# Altium footprint library Converter_DCDC.PcbLib: 115 footprints (part 4 of 8)
Each footprint in its own frame and in the unit in brackets; x right, y up, seen from the top. Pads: shape width x height; smd on the part's side, far side on the other; paste and mask are expansions set on the pad; w line width, h text height; cw(c..) or ccw(c..) is an arc to the next point about the centre after c.
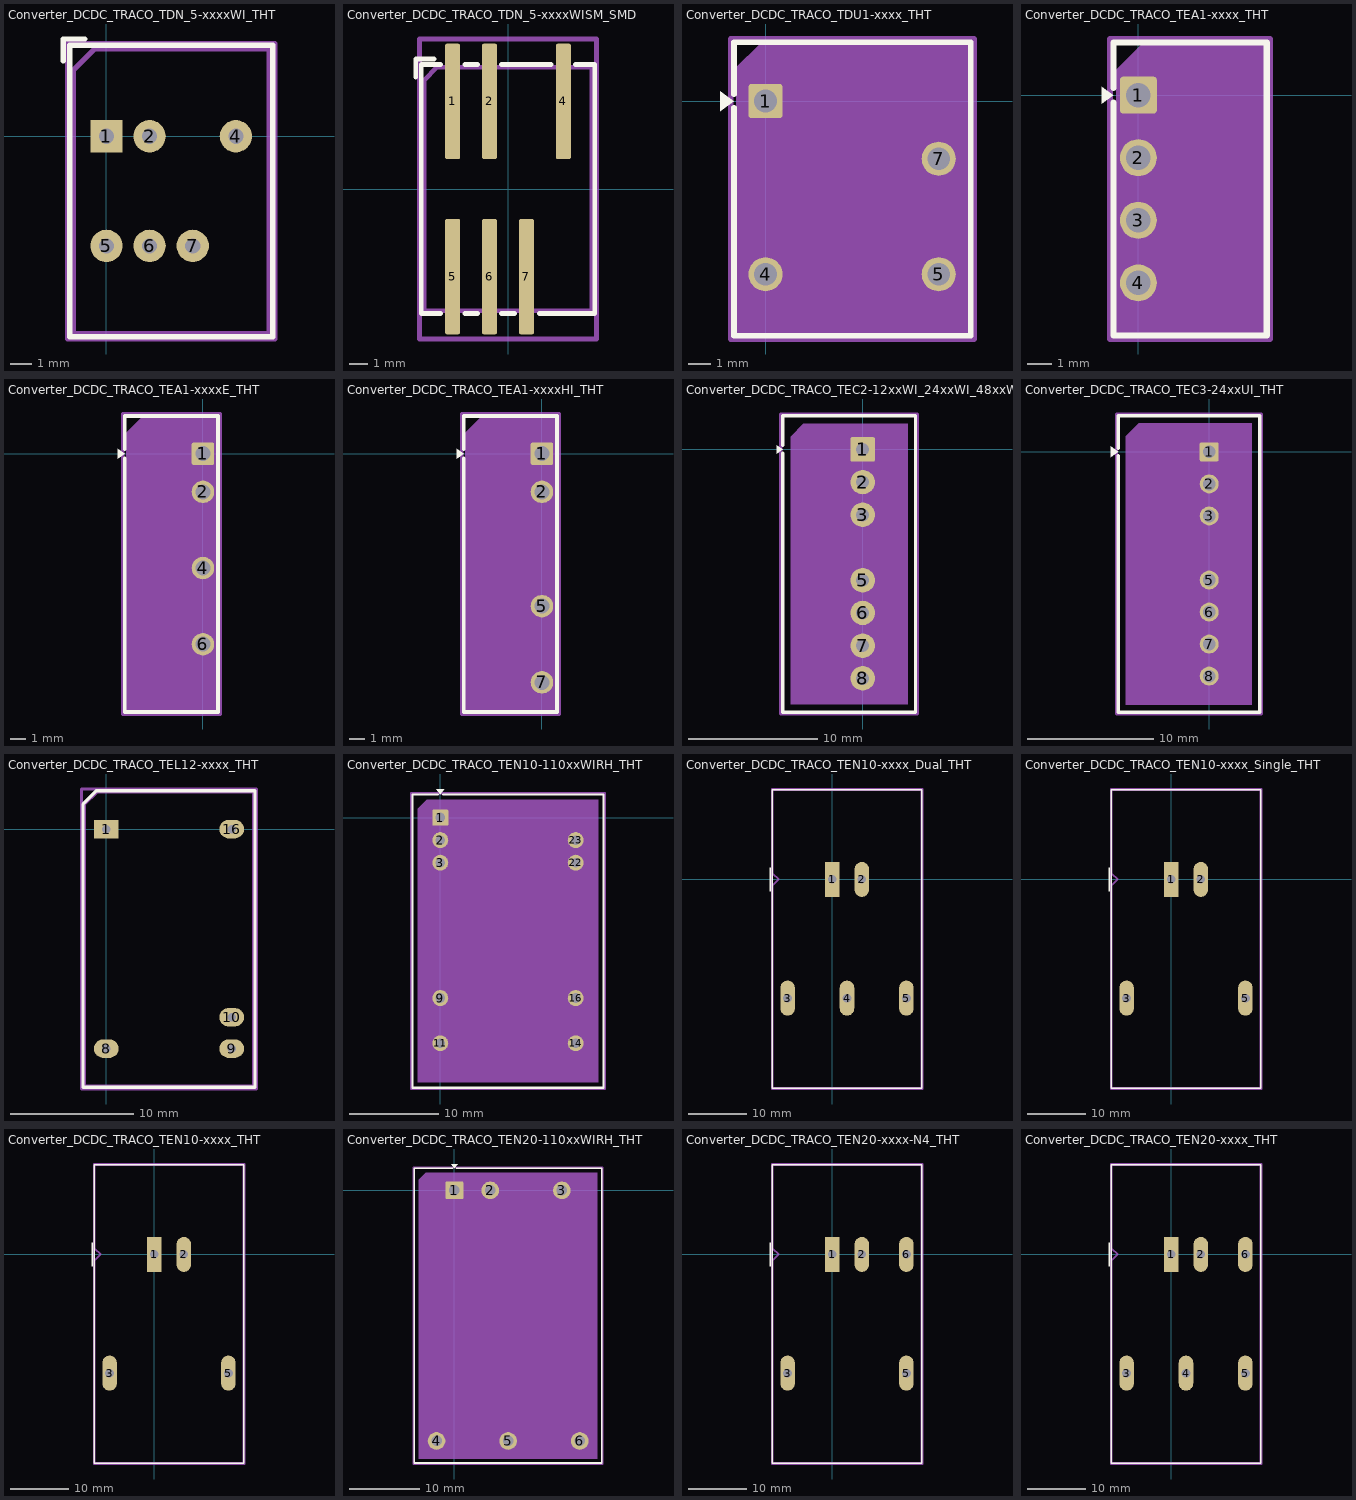
[diagram p3: the footprints below, top view; thin cyan lines are the x and y axes]

## Converter_DCDC_TRACO_TDN_5-xxxxWI_THT [mm]
pads (6):
  rect 1.5x1.5 hole 0.7: 1(0,0)
  round 1.5 hole 0.7: 2(2,0) 4(6,0) 5(0,-5.08) 6(2,-5.08) 7(4,-5.08)
F.SilkS:
  lines w0.254: -2,3.51 -2,4.51 -1,4.51 ; -1.7,-9.29 7.7,-9.29 7.7,4.21 -1.7,4.21 -1.7,-9.29
Top Assembly:
  lines w0.254: -1.55,-9.15 7.55,-9.15 7.55,4.05 -0.55,4.05 -1.55,3.05 -1.55,-9.15
  text "'.Designator'" at -1.047,-3.38 h1
Top Courtyard:
  lines w0.254: -1.8,-9.4 7.8,-9.4 7.8,4.3 -1.8,4.3 -1.8,-9.4
Top Designator:
  text ".Designator" at -4.718,-2.953 h1.52

## Converter_DCDC_TRACO_TDN_5-xxxxWISM_SMD [mm]
pads (6):
  rrect25% 0.82x6.25 smd: 1(-3,4.75) 2(-1,4.75) 4(3,4.75) 5(-3,-4.75) 6(-1,-4.75) 7(1,-4.75)
F.SilkS:
  lines w0.254: -5,6.05 -5,7.05 -4,7.05 ; -3.65,-6.75 -4.7,-6.75 -4.7,6.75 -3.65,6.75 ; -2.35,-6.75 -1.65,-6.75 ; -2.35,6.75 -1.65,6.75 ; -0.35,-6.75 0.35,-6.75 ; -0.35,6.75 2.35,6.75 ; 1.7,-6.75 4.7,-6.75 4.7,6.75 3.65,6.75
Top Assembly:
  lines w0.254: -4.55,-6.6 4.55,-6.6 4.55,6.6 -3.85,6.6 -4.55,5.9 -4.55,-6.6
  text "'.Designator'" at -4.047,-0.84 h1
Top Courtyard:
  lines w0.254: -4.8,-8.13 4.8,-8.13 4.8,8.13 -4.8,8.13 -4.8,-8.13
Top Designator:
  text ".Designator" at -7.718,-0.508 h1.52

## Converter_DCDC_TRACO_TDU1-xxxx_THT [mm]
pads (4):
  rrect17% 1.5x1.5 hole 1: 1(0,0)
  round 1.5 hole 1: 4(0,-7.62) 5(7.62,-7.62) 7(7.62,-2.54)
F.SilkS:
  region: -1.39,0 -2,-0.44 -2,0.44
  lines w0.254: -1.39,-0.296 -1.39,-10.33 9.03,-10.33 9.03,2.59 -1.39,2.59 -1.39,0.296
Top Assembly:
  region: 8.92,-10.22 -1.28,-10.22 -1.28,1.48 -0.28,2.48 8.92,2.48
  text "'.Designator'" at -0.227,-4.71 h1
Top Courtyard:
  lines w0.254: -1.53,-10.47 9.17,-10.47 9.17,2.73 -1.53,2.73 -1.53,-10.47
Top Designator:
  text ".Designator" at -3.969,-4.378 h1.52

## Converter_DCDC_TRACO_TEA1-xxxx_THT [mm]
pads (4):
  rrect17% 1.5x1.5 hole 1: 1(0,0)
  round 1.5 hole 1: 2(0,-2.54) 3(0,-5.08) 4(0,-7.62)
F.SilkS:
  region: -1.01,0 -1.48,-0.34 -1.48,0.34
  lines w0.254: -1.01,-0.296 -1.01,-9.76 5.21,-9.76 5.21,2.14 -1.01,2.14 -1.01,0.296
Top Assembly:
  region: 5.1,-9.65 -0.9,-9.65 -0.9,1.03 0.1,2.03 5.1,2.03
  text "'.Designator'" at -1.947,-4.65 h1
Top Courtyard:
  lines w0.254: -1.15,-9.9 5.35,-9.9 5.35,2.28 -1.15,2.28 -1.15,-9.9
Top Designator:
  text ".Designator" at -5.668,-4.318 h1.52

## Converter_DCDC_TRACO_TEA1-xxxxE_THT [mm]
pads (4):
  rrect17% 1.5x1.5 hole 1: 1(0,0)
  round 1.5 hole 1: 2(0,-2.54) 4(0,-7.62) 6(0,-12.7)
F.SilkS:
  region: -5.21,0 -5.68,-0.34 -5.68,0.34
  lines w0.254: -5.21,-0.296 -5.21,-17.21 1.01,-17.21 1.01,2.51 -5.21,2.51 -5.21,0.296
Top Assembly:
  region: 0.9,-17.1 -5.1,-17.1 -5.1,1.4 -4.1,2.4 0.9,2.4
  text "'.Designator'" at -6.147,-8.19 h1
Top Courtyard:
  lines w0.254: -5.35,-17.35 1.15,-17.35 1.15,2.65 -5.35,2.65 -5.35,-17.35
Top Designator:
  text ".Designator" at -9.868,-7.858 h1.52

## Converter_DCDC_TRACO_TEA1-xxxxHI_THT [mm]
pads (4):
  rrect17% 1.5x1.5 hole 1: 1(0,0)
  round 1.5 hole 1: 2(0,-2.54) 5(0,-10.16) 7(0,-15.24)
F.SilkS:
  region: -5.21,0 -5.68,-0.34 -5.68,0.34
  lines w0.254: -5.21,-0.296 -5.21,-17.21 1.01,-17.21 1.01,2.51 -5.21,2.51 -5.21,0.296
Top Assembly:
  region: 0.9,-17.1 -5.1,-17.1 -5.1,1.4 -4.1,2.4 0.9,2.4
  text "'.Designator'" at -6.147,-8.19 h1
Top Courtyard:
  lines w0.254: -5.35,-17.35 1.15,-17.35 1.15,2.65 -5.35,2.65 -5.35,-17.35
Top Designator:
  text ".Designator" at -9.868,-7.858 h1.52

## Converter_DCDC_TRACO_TEC2-12xxWI_24xxWI_48xxWI_THT [mm]
pads (7):
  rrect13% 1.9x1.9 hole 1: 1(0,0)
  round 1.9 hole 1: 2(0,-2.54) 3(0,-5.08) 5(0,-10.16) 6(0,-12.7) 7(0,-15.24) 8(0,-17.78)
F.SilkS:
  region: -6.21,0 -6.68,-0.34 -6.68,0.34
  lines w0.254: -6.21,-0.296 -6.21,-20.41 4.11,-20.41 4.11,2.61 -6.21,2.61 -6.21,0.296
Top Assembly:
  region: 3.5,-19.8 -5.6,-19.8 -5.6,1 -4.6,2 3.5,2
  text "'.Designator'" at -5.097,-9.74 h1
Top Courtyard:
  lines w0.254: -6.35,-20.55 4.25,-20.55 4.25,2.75 -6.35,2.75 -6.35,-20.55
Top Designator:
  text ".Designator" at -8.769,-9.408 h1.52

## Converter_DCDC_TRACO_TEC3-24xxUI_THT [mm]
pads (7):
  rrect17% 1.5x1.5 hole 1: 1(0,0)
  round 1.5 hole 1: 2(0,-2.54) 3(0,-5.08) 5(0,-10.16) 6(0,-12.7) 7(0,-15.24) 8(0,-17.78)
F.SilkS:
  region: -7.21,0 -7.82,-0.44 -7.82,0.44
  lines w0.254: -7.21,-0.296 -7.21,-20.65 4.01,-20.65 4.01,2.87 -7.21,2.87 -7.21,0.296
Top Assembly:
  region: 3.4,-20.04 -6.6,-20.04 -6.6,1.26 -5.6,2.26 3.4,2.26
  text "'.Designator'" at -5.647,-9.73 h1
Top Courtyard:
  lines w0.254: -7.35,-20.79 4.15,-20.79 4.15,3.01 -7.35,3.01 -7.35,-20.79
Top Designator:
  text ".Designator" at -9.389,-9.398 h1.52

## Converter_DCDC_TRACO_TEL12-xxxx_THT [mm]
pads (5):
  rect 2x1.5 hole 0.7: 1(0,0)
  rrect100% 2x1.5 hole 0.7: 8(0,-17.78) 9(10.16,-17.78) 10(10.16,-15.24) 16(10.16,0)
F.SilkS:
  lines w0.254: -1.88,-20.91 12.04,-20.91 ; -1.88,-20.9 -1.88,2.045 -0.815,3.11 12.03,3.11 ; 12.04,-20.9 12.04,3.1
Top Assembly:
  lines w0.254: -1.77,-20.8 11.93,-20.8 11.93,3 -0.77,3 -1.77,2 -1.77,-20.8
  text "'.Designator'" at 1.033,-10.44 h1
Top Courtyard:
  lines w0.254: -2.02,-21.05 12.18,-21.05 12.18,3.25 -2.02,3.25 -2.02,-21.05
Top Designator:
  text ".Designator" at -2.538,-9.408 h1.52

## Converter_DCDC_TRACO_TEN10-110xxWIRH_THT [mm]
pads (9):
  rrect14% 1.8x1.8 hole 1.1: 1(0,0)
  round 1.8 hole 1.1: 2(0,-2.54) 3(0,-5.08) 9(0,-20.32) 11(0,-25.4) 14(15.24,-25.4) 16(15.24,-20.32) 22(15.24,-5.08) 23(15.24,-2.54)
F.SilkS:
  region: 0,2.61 -0.44,3.22 0.44,3.22
  lines w0.254: -0.296,2.61 -3.14,2.61 -3.14,-30.41 18.38,-30.41 18.38,2.61 0.296,2.61
Top Assembly:
  region: 17.77,-29.8 -2.53,-29.8 -2.53,1 -1.53,2 17.77,2
  text "'.Designator'" at 3.573,-14.74 h1
Top Courtyard:
  lines w0.254: -3.28,-30.55 18.52,-30.55 18.52,2.75 -3.28,2.75 -3.28,-30.55
Top Designator:
  text ".Designator" at 0.002,-14.236 h1.52

## Converter_DCDC_TRACO_TEN10-xxxx_Dual_THT [mm]
pads (5):
  rect 2.5x6 hole 1.5: 1(0,0)
  rrect100% 2.5x6 hole 1.5: 2(5.08,0) 3(-7.62,-20.32) 4(2.54,-20.32) 5(12.7,-20.32)
F.SilkS:
  lines w0.254: -10.62,-2 -10.62,2 ; -10.24,-35.72 15.36,-35.72 15.36,15.32 -10.24,15.32 -10.24,-35.72
Top Assembly:
  lines w0.254: -10.12,-35.6 15.24,-35.6 15.24,15.2 -10.12,15.2 -10.12,1 -9.12,0 -10.12,-1 -10.12,-35.6
  text "'.Designator'" at -1.507,-10.492 h1
Top Courtyard:
  lines w0.254: -10.37,-35.85 15.49,-35.85 15.49,15.45 -10.37,15.45 -10.37,-35.85
Top Designator:
  text ".Designator" at -5.183,-10.708 h1.52

## Converter_DCDC_TRACO_TEN10-xxxx_Single_THT [mm]
pads (4):
  rect 2.5x6 hole 1.5: 1(0,0)
  rrect100% 2.5x6 hole 1.5: 2(5.08,0) 3(-7.62,-20.32) 5(12.7,-20.32)
F.SilkS:
  lines w0.254: -10.62,-2 -10.62,2 ; -10.24,-35.72 15.36,-35.72 15.36,15.32 -10.24,15.32 -10.24,-35.72
Top Assembly:
  lines w0.254: -10.12,-35.6 15.24,-35.6 15.24,15.2 -10.12,15.2 -10.12,1 -9.12,0 -10.12,-1 -10.12,-35.6
  text "'.Designator'" at -1.507,-10.492 h1
Top Courtyard:
  lines w0.254: -10.37,-35.85 15.49,-35.85 15.49,15.45 -10.37,15.45 -10.37,-35.85
Top Designator:
  text ".Designator" at -5.183,-10.708 h1.52

## Converter_DCDC_TRACO_TEN10-xxxx_THT [mm]
pads (4):
  rect 2.5x6 hole 1.5: 1(0,0)
  rrect100% 2.5x6 hole 1.5: 2(5.08,0) 3(-7.62,-20.32) 5(12.7,-20.32)
F.SilkS:
  lines w0.254: -10.62,-2 -10.62,2 ; -10.24,-35.72 15.36,-35.72 15.36,15.32 -10.24,15.32 -10.24,-35.72
Top Assembly:
  lines w0.254: -10.12,-35.6 15.24,-35.6 15.24,15.2 -10.12,15.2 -10.12,1 -9.12,0 -10.12,-1 -10.12,-35.6
  text "'.Designator'" at -1.507,-10.492 h1
Top Courtyard:
  lines w0.254: -10.37,-35.85 15.49,-35.85 15.49,15.45 -10.37,15.45 -10.37,-35.85
Top Designator:
  text ".Designator" at -5.183,-10.708 h1.52

## Converter_DCDC_TRACO_TEN20-110xxWIRH_THT [mm]
pads (6):
  rrect10% 2.5x2.5 hole 1.5: 1(0,0)
  round 2.5 hole 1.5: 2(5.08,0) 3(15.24,0) 4(-2.54,-35.56) 5(7.62,-35.56) 6(17.78,-35.56)
F.SilkS:
  region: 0,3.13 -0.44,3.74 0.44,3.74
  lines w0.254: -0.296,3.13 -5.71,3.13 -5.71,-38.69 20.91,-38.69 20.91,3.13 0.296,3.13
Top Assembly:
  region: 20.3,-38.08 -5.1,-38.08 -5.1,1.52 -4.1,2.52 20.3,2.52
  text "'.Designator'" at 3.553,-18.62 h1
Top Courtyard:
  lines w0.254: -5.85,-38.83 21.05,-38.83 21.05,3.27 -5.85,3.27 -5.85,-38.83
Top Designator:
  text ".Designator" at -0.018,-18.116 h1.52

## Converter_DCDC_TRACO_TEN20-xxxx-N4_THT [mm]
pads (5):
  rect 2.5x6 hole 1.5: 1(0,0)
  rrect100% 2.5x6 hole 1.5: 2(5.08,0) 3(-7.62,-20.32) 5(12.7,-20.32) 6(12.7,0)
F.SilkS:
  lines w0.254: -10.62,-2 -10.62,2 ; -10.24,-35.72 15.36,-35.72 15.36,15.32 -10.24,15.32 -10.24,-35.72
Top Assembly:
  lines w0.254: -10.12,-35.6 15.24,-35.6 15.24,15.2 -10.12,15.2 -10.12,1 -9.12,0 -10.12,-1 -10.12,-35.6
  text "'.Designator'" at -1.507,-10.492 h1
Top Courtyard:
  lines w0.254: -10.37,-35.85 15.49,-35.85 15.49,15.45 -10.37,15.45 -10.37,-35.85
Top Designator:
  text ".Designator" at -5.183,-10.708 h1.52

## Converter_DCDC_TRACO_TEN20-xxxx_THT [mm]
pads (6):
  rect 2.5x6 hole 1.5: 1(0,0)
  rrect100% 2.5x6 hole 1.5: 2(5.08,0) 3(-7.62,-20.32) 4(2.54,-20.32) 5(12.7,-20.32) 6(12.7,0)
F.SilkS:
  lines w0.254: -10.62,-2 -10.62,2 ; -10.24,-35.72 15.36,-35.72 15.36,15.32 -10.24,15.32 -10.24,-35.72
Top Assembly:
  lines w0.254: -10.12,-35.6 15.24,-35.6 15.24,15.2 -10.12,15.2 -10.12,1 -9.12,0 -10.12,-1 -10.12,-35.6
  text "'.Designator'" at -1.507,-10.492 h1
Top Courtyard:
  lines w0.254: -10.37,-35.85 15.49,-35.85 15.49,15.45 -10.37,15.45 -10.37,-35.85
Top Designator:
  text ".Designator" at -5.183,-10.708 h1.52